# Altium footprint library PTD9011015FB203.PcbLib: 1 footprints
Each footprint in its own frame and in the unit in brackets; x right, y up, seen from the top. Pads: shape width x height; smd on the part's side, far side on the other; paste and mask are expansions set on the pad; w line width, h text height; cw(c..) or ccw(c..) is an arc to the next point about the centre after c.
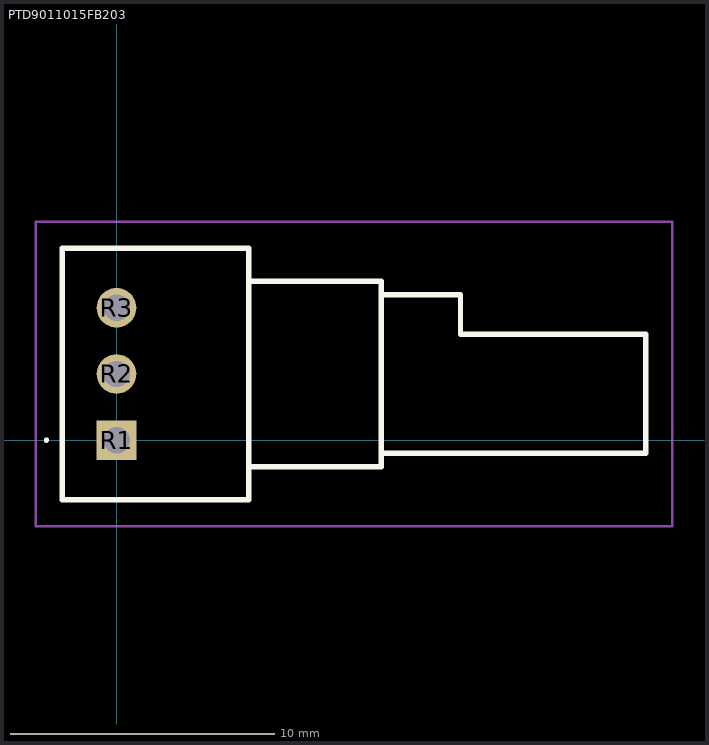
[diagram p0: the footprint, top view; thin cyan lines are the x and y axes]

## PTD9011015FB203 [mm]
pads (3):
  rect 1.5x1.5 hole 1: R1(0,0)
  round 1.5 hole 1: R2(0,2.5) R3(0,5)
Top Overlay:
  lines w0.1: -2.7,0 cw(c-2.65,0) -2.6,0 ; -2.7,0 -2.7,0 ; -2.7,0 ccw(c-2.65,0) -2.6,0 ; -2.6,0 -2.6,0
  lines w0.2: 5,-1 10,-1 10,6 5,6 ; 10,-0.5 20,-0.5 20,4 13,4 13,5.5 10,5.5 ; -2.05,-2.25 5,-2.25 5,7.25 -2.05,7.25 -2.05,-2.25
Mechanical 15:
  lines w0.1: 5,-1 10,-1 10,6 5,6 ; 10,-0.5 20,-0.5 20,4 13,4 13,5.5 10,5.5 ; -2.05,-2.25 5,-2.25 5,7.25 -2.05,7.25 -2.05,-2.25
Mechanical 20:
  lines w0.1: -3.05,-3.25 21,-3.25 21,8.25 -3.05,8.25 -3.05,-3.25